# EAGLE library part 691327310012 (library Wurth_Connectors_WR-TBL Pluggable Connector)
WR-TBL Serie 3251 - 3.50 mm Horizontal PCB Header with Flanges KIND PROPERTIES Pitch 3.81 mm MATERIAL PROPERTIES Insulator Material PA66 Insulator Flammability Rating UL94 V-0 Contact Material Brass Contact Plating Tin GENERAL INFORMATION Operating Temperature -40 up to +105 °C Compliance RoHS ELECTRICAL PROPERTIES IR UL 10 A Working Voltage [UL] 300 V (AC) Withstanding Voltage [cULus] 1600 V (AC) Contact Resistance [cULus] 20 mΩ CERTIFICATION cULus Approval E315414 <https://www.we-online.com/catalog/media/o33343v209%20Family_WR-TL_6913273100xx.jpg> Details see: https://www.we-online.com/catalog/en/TBL_3_81_3273_DOUBLE_LEVEL_HORIZONTAL_MALE_PCB_HEADER_W_FLANGES_6913273100XX/ Updated by Ella Wu 2019-12-23 2022(C) Wurth Elektronik
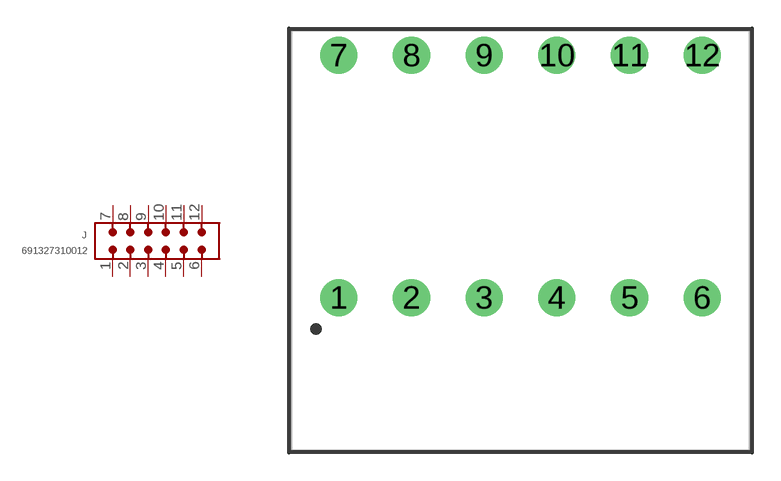
[diagram p64: symbol with the pads of 691327310012; footprint 691327310012]

Designator prefix J

## 691327310012 (DATASHEET-URL: https://www.we-online.com/redexpert/spec/691327310012?ae; IR-UL: 10A; MOUNT: THT; PART-NUMBER: 691327310012; PINS: 12; PITCH: 3.81mm; TYPE: Dual Horizontal; VALUE: 691327310012; WORKING-VOLTAGE-UL: 300V (AC))  [691327310012]
1  1  pas
2  2  pas
3  3  pas
4  4  pas
5  5  pas
6  6  pas
7  7  pas
8  8  pas
9  9  pas
10  10  pas
11  11  pas
12  12  pas

## Footprint 691327310012 (pad centres in mm)
WR-TBL Serie 3273 - 3.81 mm Double Level Horizontal Male PCB Header with Flanges Max Height = 22.7mm , Pitch 3.81mm , 12pins
drill 1.3: 1 -9.525,-6.35; 2 -5.715,-6.35; 3 -1.905,-6.35; 4 1.905,-6.35; 5 5.715,-6.35; 6 9.525,-6.35; 7 -9.525,6.35; 8 -5.715,6.35; 9 -1.905,6.35; 10 1.905,6.35; 11 5.715,6.35; 12 9.525,6.35